# Altium footprint library LTST-S270KGKT.PcbLib: 1 footprints
Each footprint in its own frame and in the unit in brackets; x right, y up, seen from the top. Pads: shape width x height; smd on the part's side, far side on the other; paste and mask are expansions set on the pad; w line width, h text height; cw(c..) or ccw(c..) is an arc to the next point about the centre after c.
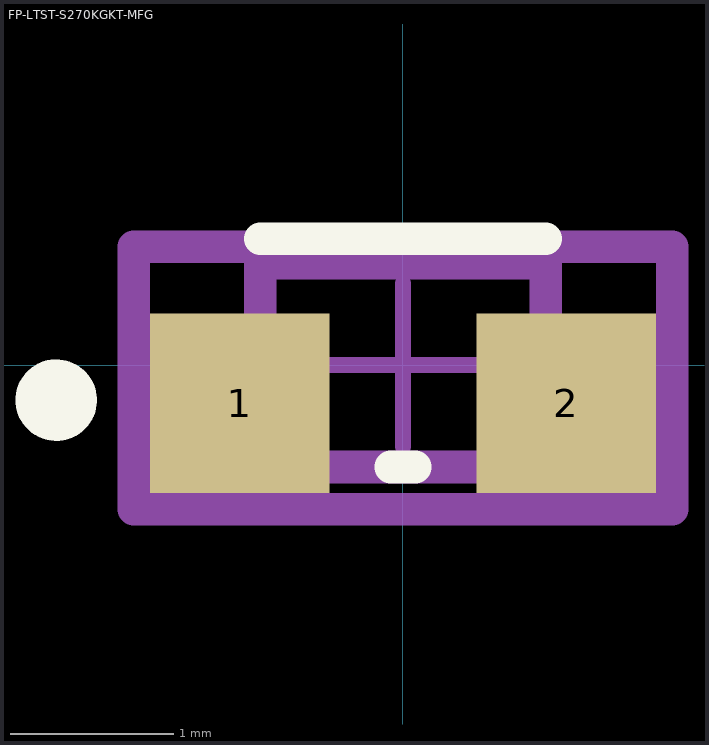
[diagram p0: the footprint, top view; thin cyan lines are the x and y axes]

## FP-LTST-S270KGKT-MFG [mm]
pads (2):
  rect 1.1x1.1 smd paste+0 mask+0: 1(-1,-0.235) 2(1,-0.235)
Top Overlay:
  circle w0.25: c-2.125,-0.215 r0.125
  lines w0.2: -0.875,0.775 0.875,0.775 ; -0.075,-0.625 0.075,-0.625
Top Assembly:
  lines w0.2: -1.65,-0.885 1.65,-0.885 1.65,0.725 -1.65,0.725 -1.65,-0.885
  text ".Designator" at 0,-0.081 h1
Top 3D Body:
  lines w0.2: -0.875,-0.625 0.875,-0.625 0.875,0.625 -0.875,0.625 -0.875,-0.625
Top Courtyard:
  lines w0.2: -1.65,-0.885 1.65,-0.885 1.65,0.725 -1.65,0.725 -1.65,-0.885
Top Component Center:
  lines w0.1: -0.5,0 0.5,0 ; 0,-0.5 0,0.5
3D body "Diode_Lite-On_LTST-S270KGKT_eec.STEP": height 0.25, standoff 0, extent -1.65,-0.885 1.65,0.725